# EAGLE library part 55959-2030 (library con-molex_MOD)
2.00mm Pitch MicroClasp™ Wire-to-Board Header, Dual Row, Right Angle, 20 Circuits
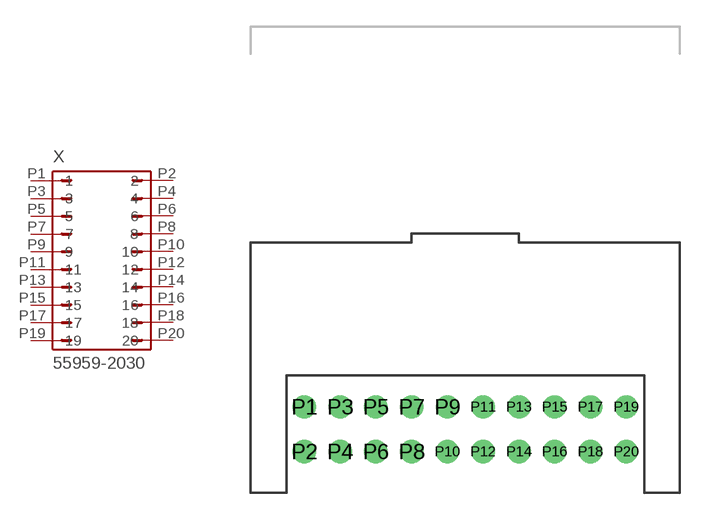
[diagram p231: symbol with the pads of 55959-2030; footprint 55959-2030]

Designator prefix X

## 55959-2030  [55959-2030]
P1  1  pas
P2  2  pas
P3  3  pas
P4  4  pas
P5  5  pas
P6  6  pas
P7  7  pas
P8  8  pas
P9  9  pas
P10  10  pas
P11  11  pas
P12  12  pas
P13  13  pas
P14  14  pas
P15  15  pas
P16  16  pas
P17  17  pas
P18  18  pas
P19  19  pas
P20  20  pas

## Footprint 55959-2030 (pad centres in mm)
drill 0.8: P1 -9,1.25; P2 -9,-1.25; P3 -7,1.25; P4 -7,-1.25; P5 -5,1.25; P6 -5,-1.25; P7 -3,1.25; P8 -3,-1.25; P9 -1,1.25; P10 -1,-1.25; P11 1,1.25; P12 1,-1.25; P13 3,1.25; P14 3,-1.25; P15 5,1.25; P16 5,-1.25; P17 7,1.25; P18 7,-1.25; P19 9,1.25; P20 9,-1.25